# Altium schematic symbol library SFP_Flex_PCB_2_0.SCHLIB: 2 symbols
Pins are listed as number, name and electrical type; pins without a type are passive.

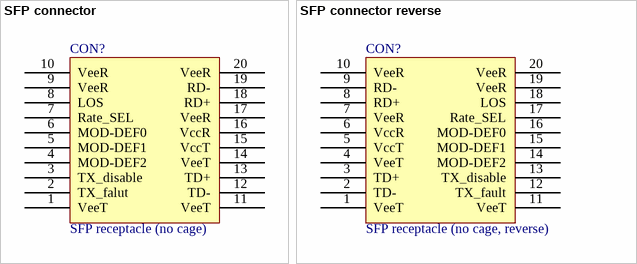
[diagram p0: symbols SFP connector to SFP connector reverse]

## SFP connector
designator CON?, comment SFP receptacle (no cage)
SFP receptacle, woutout cage, standard orientation of SFP module; Implementation: YES; Datasheet: *; Manifacturer: *; Manifacturer code: *; Value: *; Supplier 1: Farnell; Supplier Part Number 1: 1629987
footprint SFP receptacle (no cage)
footprint SFP PCB CON (SFP connector for flex to rigid PCB solder)
pins: 1 VeeT, 2 TX_falut, 3 TX_disable, 4 MOD-DEF2, 5 MOD-DEF1, 6 MOD-DEF0, 7 Rate_SEL, 8 LOS, 9 VeeR, 10 VeeR, 11 VeeT, 12 TD-, 13 TD+, 14 VeeT, 15 VccT, 16 VccR, 17 VeeR, 18 RD+, 19 RD-, 20 VeeR

## SFP connector reverse
designator CON?, comment SFP receptacle (no cage, reverse)
SFP receptacle, woutout cage, reverse orientation of SFP module; Implementation: YES; Supplier 1: Farnell; Supplier Part Number 1: 1629987; Datasheet: *; Manifacturer: *; Manifacturer code: *; Value: *
footprint SFP receptacle (no cage)
pins: 1 VeeT, 2 TD-, 3 TD+, 4 VeeT, 5 VccT, 6 VccR, 7 VeeR, 8 RD+, 9 RD-, 10 VeeR, 11 VeeT, 12 TX_fault, 13 TX_disable, 14 MOD-DEF2, 15 MOD-DEF1, 16 MOD-DEF0, 17 Rate_SEL, 18 LOS, 19 VeeR, 20 VeeR